# Altium footprint library wurth_term_7461086.PcbLib: 1 footprints
Each footprint in its own frame and in the unit in brackets; x right, y up, seen from the top. Pads: shape width x height; smd on the part's side, far side on the other; paste and mask are expansions set on the pad; w line width, h text height; cw(c..) or ccw(c..) is an arc to the next point about the centre after c.
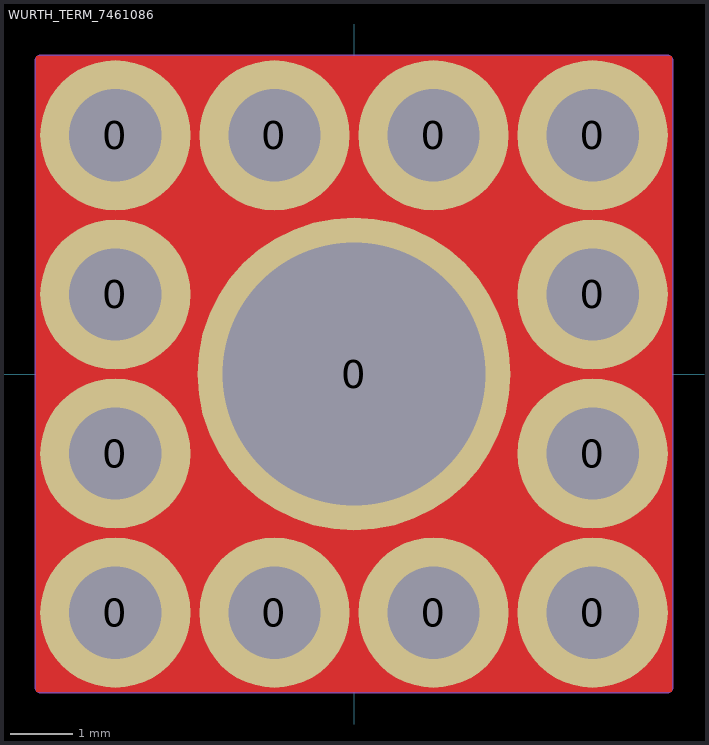
[diagram p0: the footprint, top view; thin cyan lines are the x and y axes]

## WURTH_TERM_7461086 [mm]
height 6
pads (13):
  round 2.4 hole 1.475: 0(-3.81,-3.81) 0(-3.81,-1.27) 0(-3.81,1.27) 0(-3.81,3.81) 0(-1.27,-3.81) 0(-1.27,3.81) 0(1.27,-3.81) 0(1.27,3.81) 0(3.81,-3.81) 0(3.81,-1.27) 0(3.81,1.27) 0(3.81,3.81)
  round 5 hole 4.2: 0(0,0)
Top Layer:
  rectangle: -5.08,-5.08 5.08,5.08
Bottom Layer:
  rectangle: -5.08,-5.08 5.08,5.08
Mechanical 1:
  text ".Designator" at -1.28,-0.18 h0.6
Top Courtyard:
  lines w0.2: -5,-5 -5,5 5,5 5,-5 -5,-5
3D body "7461086 (rev1).stp": height 6.01, standoff -3.49, extent -4.5,-4.5 4.5,4.5